# EAGLE library part ATTINY1604 (library attiny1604)
The ATtiny804/1604 microcontrollers are using the high-performance, low-power AVR® RISC architecture,and are capable of running at up to 20 MHz, with up to 8/16 KB Flash, 512/1024 bytes of SRAM, and128/256 bytes of EEPROM in a 14-pin package. The series uses the latest technologies with a flexibleand low-power architecture including Event System and SleepWalking, accurate analog features andadvanced peripherals.
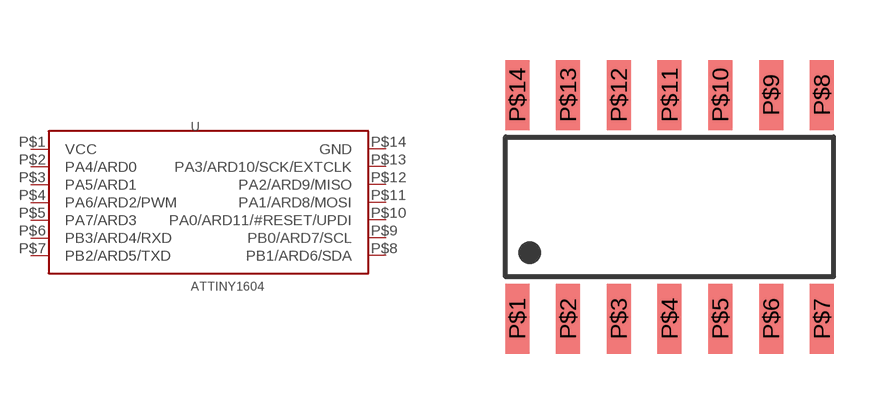
[diagram p0: symbol with the pads of SOIC150; footprint SOIC150]

Designator prefix U

## ATTINY1604  [SOIC150]
P$1  VCC  pwr
P$2  PA4/ARD0
P$3  PA5/ARD1
P$4  PA6/ARD2/PWM
P$5  PA7/ARD3
P$6  PB3/ARD4/RXD
P$7  PB2/ARD5/TXD
P$8  PB1/ARD6/SDA
P$9  PB0/ARD7/SCL
P$10  PA0/ARD11/#RESET/UPDI
P$11  PA1/ARD8/MOSI
P$12  PA2/ARD9/MISO
P$13  PA3/ARD10/SCK/EXTCLK
P$14  GND

## Footprint SOIC150 (pad centres in mm)
smd 0.6 x 1.75: P$1 -3.81,-2.8; P$2 -2.54,-2.8; P$3 -1.27,-2.8; P$4 0,-2.8; P$5 1.27,-2.8; P$6 2.54,-2.8; P$7 3.81,-2.8; P$8 3.81,2.8; P$9 2.54,2.8; P$10 1.27,2.8; P$11 0,2.8; P$12 -1.27,2.8; P$13 -2.54,2.8; P$14 -3.81,2.8